# Altium schematic symbol library CONN HEADER 2.50MM PITCH.SchLib: 50 symbols
Pins are listed as number, name and electrical type; pins without a type are passive.

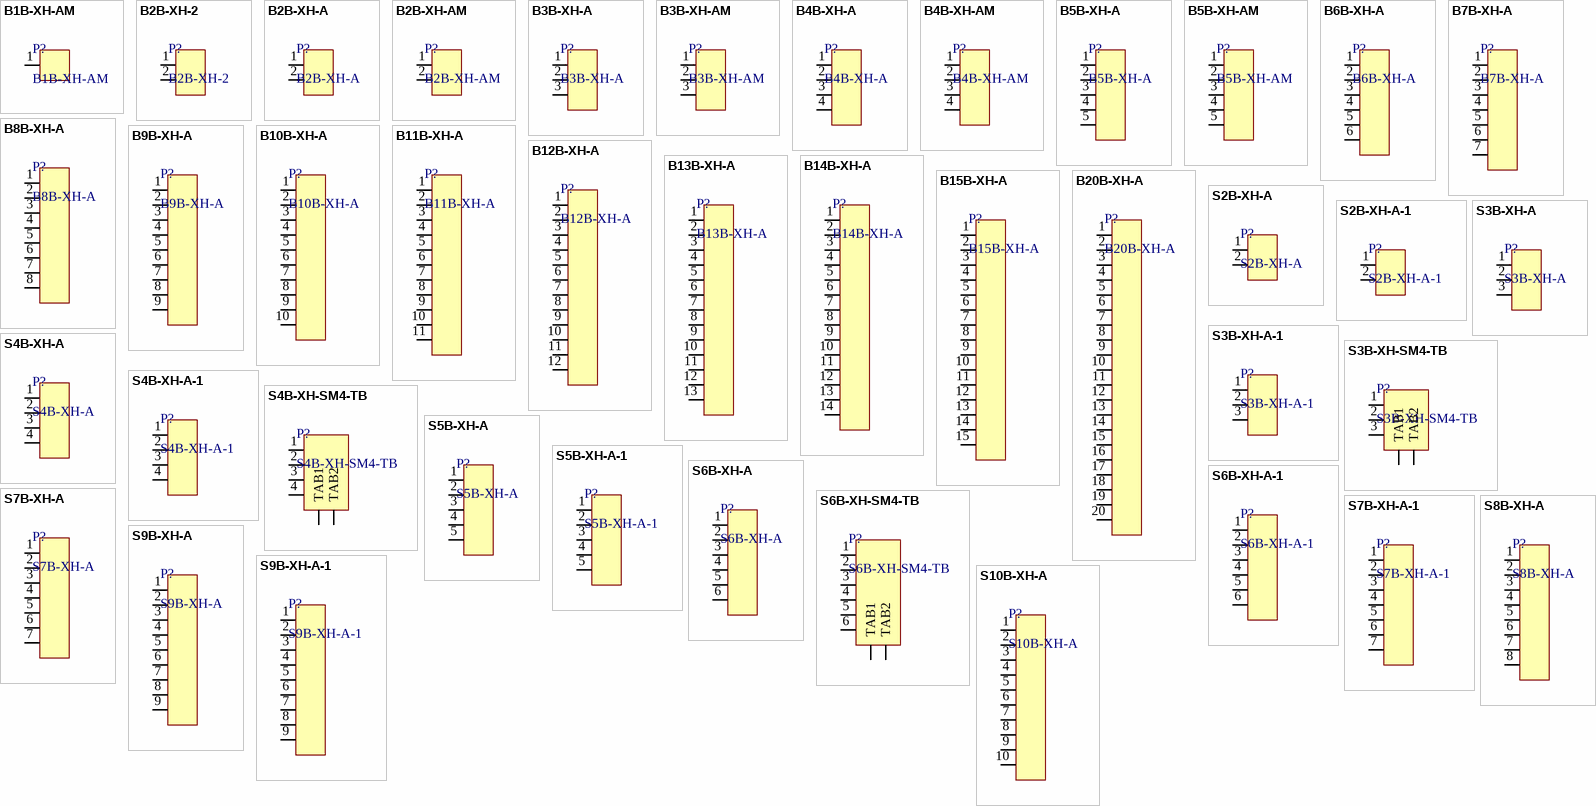
[diagram p0: symbols B1B-XH-AM to S10B-XH-A]

## B1B-XH-AM
designator P?
1P 2.5mm Polar Male Vertical Shrouded with Boss
footprint B1B-XH-AM
pins: 1

## B2B-XH-2
designator P?
2P 2.5mm Polar Male Vertical Shrouded
footprint B2B-XH-2
pins: 1, 2

## B2B-XH-A
designator P?
2P 2.5mm Polar Male Vertical Shrouded
footprint B2B-XH-A
pins: 1, 2

## B2B-XH-AM
designator P?
2P 2.5mm Polar Male Vertical Shrouded with Boss
footprint B2B-XH-AM
pins: 1, 2

## B3B-XH-A
designator P?
3P 2.5mm Polar Male Vertical Shrouded
footprint B3B-XH-A
pins: 1, 2, 3

## B3B-XH-AM
designator P?
3P 2.5mm Polar Male Vertical Shrouded with Boss
footprint B3B-XH-AM
pins: 1, 2, 3

## B4B-XH-A
designator P?
4P 2.5mm Polar Male Vertical Shrouded
footprint B4B-XH-A
pins: 1, 2, 3, 4

## B4B-XH-AM
designator P?
4P 2.5mm Polar Male Vertical Shrouded with Boss
footprint B4B-XH-AM
pins: 1, 2, 3, 4

## B5B-XH-A
designator P?
5P 2.5mm Polar Male Vertical Shrouded
footprint B5B-XH-A
pins: 1, 2, 3, 4, 5

## B5B-XH-AM
designator P?
5P 2.5mm Polar Male Vertical Shrouded with Boss
footprint B5B-XH-AM
pins: 1, 2, 3, 4, 5

## B6B-XH-A
designator P?
6P 2.5mm Polar Male Vertical Shrouded
footprint B6B-XH-A
pins: 1, 2, 3, 4, 5, 6

## B7B-XH-A
designator P?
7P 2.5mm Polar Male Vertical Shrouded
footprint B7B-XH-A
pins: 1, 2, 3, 4, 5, 6, 7

## B8B-XH-A
designator P?
8P 2.5mm Polar Male Vertical Shrouded
footprint B8B-XH-A
pins: 1, 2, 3, 4, 5, 6, 7, 8

## B9B-XH-A
designator P?
9P 2.5mm Polar Male Vertical Shrouded
footprint B9B-XH-A
pins: 1, 2, 3, 4, 5, 6, 7, 8, 9

## B10B-XH-A
designator P?
10P 2.5mm Polar Male Vertical Shrouded
footprint B10B-XH-A
pins: 1, 2, 3, 4, 5, 6, 7, 8, 9, 10

## B11B-XH-A
designator P?
11P 2.5mm Polar Male Vertical Shrouded
footprint B11B-XH-A
pins: 1, 2, 3, 4, 5, 6, 7, 8, 9, 10, 11

## B12B-XH-A
designator P?
12P 2.5mm Polar Male Vertical Shrouded
footprint B12B-XH-A
pins: 1, 2, 3, 4, 5, 6, 7, 8, 9, 10, 11, 12

## B13B-XH-A
designator P?
13P 2.5mm Polar Male Vertical Shrouded
footprint B13B-XH-A
pins: 1, 2, 3, 4, 5, 6, 7, 8, 9, 10, 11, 12, 13

## B14B-XH-A
designator P?
14P 2.5mm Polar Male Vertical Shrouded
footprint B14B-XH-A
pins: 1, 2, 3, 4, 5, 6, 7, 8, 9, 10, 11, 12, 13, 14

## B15B-XH-A
designator P?
15P 2.5mm Polar Male Vertical Shrouded
footprint B15B-XH-A
pins: 1, 2, 3, 4, 5, 6, 7, 8, 9, 10, 11, 12, 13, 14, 15

## B20B-XH-A
designator P?
20P 2.5mm Polar Male Vertical Shrouded
footprint B20B-XH-A
pins: 1, 2, 3, 4, 5, 6, 7, 8, 9, 10, 11, 12, 13, 14, 15, 16, 17, 18, 19, 20

## S2B-XH-A
designator P?
2P 2.5mm Polar Male Right Angle Shrouded Far Pins
footprint S2B-XH-A
footprint S2B-XH-A SMT BENT (S2B-XH-A with bent  leads for SMT mount)
pins: 1, 2

## S2B-XH-A-1
designator P?
2P 2.5mm Polar Male Right Angle Shrouded Deep Pins
footprint S2B-XH-A-1
pins: 1, 2

## S3B-XH-A
designator P?
3P 2.5mm Polar Male Right Angle Shrouded Far Pins
footprint S3B-XH-A
pins: 1, 2, 3

## S3B-XH-A-1
designator P?
3P 2.5mm Polar Male Right Angle Shrouded Deep Pins
footprint S3B-XH-A-1
pins: 1, 2, 3

## S3B-XH-SM4-TB
designator P?
3P 2.5mm Polar Male Right Angle Shrouded SMD
footprint S3B-XH-SM4-TB
pins: 1, 2, 3, TAB1, TAB2

## S4B-XH-A
designator P?
4P 2.5mm Polar Male Right Angle Shrouded Far Pins
footprint S4B-XH-A
pins: 1, 2, 3, 4

## S4B-XH-A-1
designator P?
4P 2.5mm Polar Male Right Angle Shrouded Deep Pins
footprint S4B-XH-A-1
pins: 1, 2, 3, 4

## S4B-XH-SM4-TB
designator P?
4P 2.5mm Polar Male Right Angle Shrouded SMD
footprint S4B-XH-SM4-TB
pins: 1, 2, 3, 4, TAB1, TAB2

## S5B-XH-A
designator P?
5P 2.5mm Polar Male Right Angle Shrouded Far Pins
footprint S5B-XH-A
pins: 1, 2, 3, 4, 5

## S5B-XH-A-1
designator P?
5P 2.5mm Polar Male Right Angle Shrouded Deep Pins
footprint S5B-XH-A-1
pins: 1, 2, 3, 4, 5

## S6B-XH-A
designator P?
6P 2.5mm Polar Male Right Angle Shrouded Far Pins
footprint S6B-XH-A
pins: 1, 2, 3, 4, 5, 6

## S6B-XH-A-1
designator P?
6P 2.5mm Polar Male Right Angle Shrouded Deep Pins
footprint S6B-XH-A-1
pins: 1, 2, 3, 4, 5, 6

## S6B-XH-SM4-TB
designator P?
6P 2.5mm Polar Male Right Angle Shrouded SMD
footprint S6B-XH-SM4-TB
pins: 1, 2, 3, 4, 5, 6, TAB1, TAB2

## S7B-XH-A
designator P?
7P 2.5mm Polar Male Right Angle Shrouded Far Pins
footprint S7B-XH-A
pins: 1, 2, 3, 4, 5, 6, 7

## S7B-XH-A-1
designator P?
7P 2.5mm Polar Male Right Angle Shrouded Deep Pins
footprint S7B-XH-A-1
pins: 1, 2, 3, 4, 5, 6, 7

## S8B-XH-A
designator P?
8P 2.5mm Polar Male Right Angle Shrouded Far Pins
footprint S8B-XH-A
pins: 1, 2, 3, 4, 5, 6, 7, 8

## S9B-XH-A
designator P?
9P 2.5mm Polar Male Right Angle Shrouded Far Pins
footprint S9B-XH-A
pins: 1, 2, 3, 4, 5, 6, 7, 8, 9

## S9B-XH-A-1
designator P?
9P 2.5mm Polar Male Right Angle Shrouded Deep Pins
footprint S9B-XH-A-1
pins: 1, 2, 3, 4, 5, 6, 7, 8, 9

## S10B-XH-A
designator P?
10P 2.5mm Polar Male Right Angle Shrouded Far Pins
footprint S10B-XH-A
pins: 1, 2, 3, 4, 5, 6, 7, 8, 9, 10

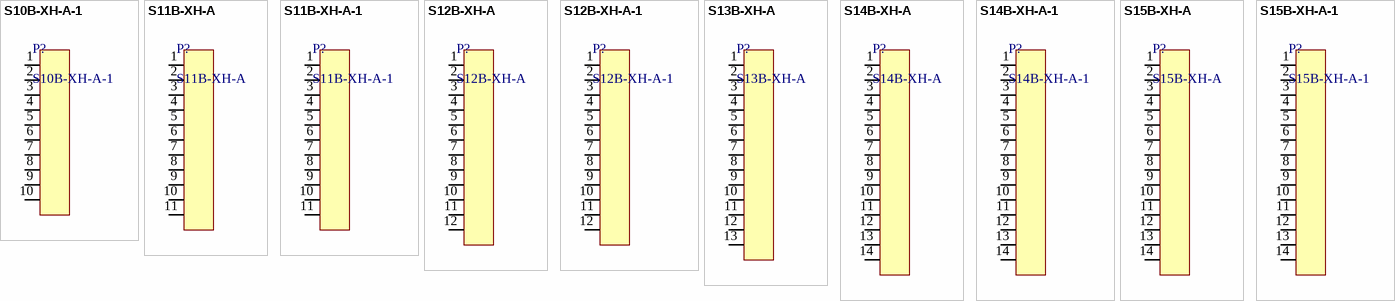
[diagram p1: symbols S10B-XH-A-1 to S15B-XH-A-1]

## S10B-XH-A-1
designator P?
10P 2.5mm Polar Male Right Angle Shrouded Deep Pins
footprint S10B-XH-A-1
pins: 1, 2, 3, 4, 5, 6, 7, 8, 9, 10

## S11B-XH-A
designator P?
11P 2.5mm Polar Male Right Angle Shrouded Far Pins
footprint S11B-XH-A
pins: 1, 2, 3, 4, 5, 6, 7, 8, 9, 10, 11

## S11B-XH-A-1
designator P?
11P 2.5mm Polar Male Right Angle Shrouded Deep Pins
footprint S11B-XH-A-1
pins: 1, 2, 3, 4, 5, 6, 7, 8, 9, 10, 11

## S12B-XH-A
designator P?
12P 2.5mm Polar Male Right Angle Shrouded Far Pins
footprint S12B-XH-A
pins: 1, 2, 3, 4, 5, 6, 7, 8, 9, 10, 11, 12

## S12B-XH-A-1
designator P?
12P 2.5mm Polar Male Right Angle Shrouded Deep Pins
footprint S12B-XH-A-1
pins: 1, 2, 3, 4, 5, 6, 7, 8, 9, 10, 11, 12

## S13B-XH-A
designator P?
13P 2.5mm Polar Male Right Angle Shrouded Far Pins
footprint S13B-XH-A
pins: 1, 2, 3, 4, 5, 6, 7, 8, 9, 10, 11, 12, 13

## S14B-XH-A
designator P?
14P 2.5mm Polar Male Right Angle Shrouded Far Pins
footprint S14B-XH-A
pins: 1, 2, 3, 4, 5, 6, 7, 8, 9, 10, 11, 12, 13, 14

## S14B-XH-A-1
designator P?
14P 2.5mm Polar Male Right Angle Shrouded Deep Pins
footprint S14B-XH-A-1
pins: 1, 2, 3, 4, 5, 6, 7, 8, 9, 10, 11, 12, 13, 14

## S15B-XH-A
designator P?
15P 2.5mm Polar Male Right Angle Shrouded Far Pins
footprint S15B-XH-A
pins: 1, 2, 3, 4, 5, 6, 7, 8, 9, 10, 11, 12, 13, 14

## S15B-XH-A-1
designator P?
15P 2.5mm Polar Male Right Angle Shrouded Deep Pins
footprint S15B-XH-A-1
pins: 1, 2, 3, 4, 5, 6, 7, 8, 9, 10, 11, 12, 13, 14